# EAGLE library part 632722200212 (library WR-USB)
WR-USB Type C Connectors Characteristics Available in 24p (3.x), 16p (2.0) and 6p (Power Delivery only) Aligned with Power Delivery up to 240W High durability (10 000 cycles) UL, TID listing for USB standards Applications Mobile computing and smart devices High-performance industrial and medical systems Consumer electronics and multimedia hubs Smart buildings Details see: www.we-online.com/en/components/products/INPUT_OUTPUT_WR_USB_STANDARD Updated by Ella 2026-07-03 2026 (C) Würth Elektronik
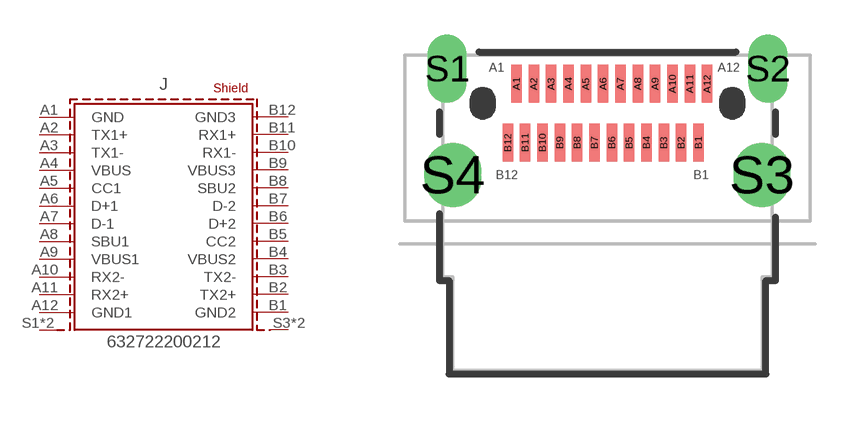
[diagram p4: symbol with the pads of 632722200212; footprint 632722200212]

Designator prefix J

## 632722200212 (APPLICATION: USB 3.2 Gen 1; DATASHEET: https://www.we-online.com/redexpert/spec/632722200212?ae; GERDER: Receptacle; INTERFACE-TYPE: Type C; IR: 5 A; MOUNT: SMT; PACKAGING: Tape and Reel; PART-NUMBER: 632722200212; PCB-THICKNESS: 1.2 mm; PINS: 24pcs; TYPE: Horizontal; VALUE: 632722200212; WORKING-VOLTAGE: 48 V (DC))  [632722200212]
A1  GND  pas
A2  TX1+  pas
A3  TX1-  pas
A4  VBUS  pas
A5  CC1  pas
A6  D+1  pas
A7  D-1  pas
A8  SBU1  pas
A9  VBUS1  pas
A10  RX2-  pas
A11  RX2+  pas
A12  GND1  pas
B1  GND2  pas
B2  TX2+  pas
B3  TX2-  pas
B4  VBUS2  pas
B5  CC2  pas
B6  D+2  pas
B7  D-2  pas
B8  SBU2  pas
B9  VBUS3  pas
B10  RX1-  pas
B11  RX1+  pas
B12  GND3  pas
S1  SHIELD  pas
S2  SHIELD  pas
S3  SHIELD1  pas
S4  SHIELD1  pas

## Footprint 632722200212 (pad centres in mm)
WR-USB Type C Connectors USB 3.2 Gen 1, Type C, Horizontal SMT, 24Pins, PCB Thickness:1.2 mm
smd 0.3 x 1.1: A1 -2.625,0.56; A2 -2.125,0.56; A3 -1.625,0.56; A4 -1.125,0.56; A5 -0.625,0.56; A6 -0.125,0.56; A7 0.375,0.56; A8 0.875,0.56; A9 1.375,0.56; A10 1.875,0.56; A11 2.375,0.56; A12 2.875,0.56; B1 2.625,-1.14; B2 2.125,-1.14; B3 1.625,-1.14; B4 1.125,-1.14; B5 0.625,-1.14; B6 0.125,-1.14; B7 -0.375,-1.14; B8 -0.875,-1.14; B9 -1.375,-1.14; B10 -1.875,-1.14; B11 -2.375,-1.14; B12 -2.875,-1.14
drill 0.55 pad 1.13 slot 1.4 rotated 90: S1 -4.625,1; S2 4.625,1
drill 0.98 pad 1.64 slot 1.2 rotated 90: S3 4.46,-2.07; S4 -4.46,-2.07